# Altium integrated library CAP_WSKJ.IntLib: 66 symbols
Pins are listed as number, name and electrical type; pins without a type are passive.

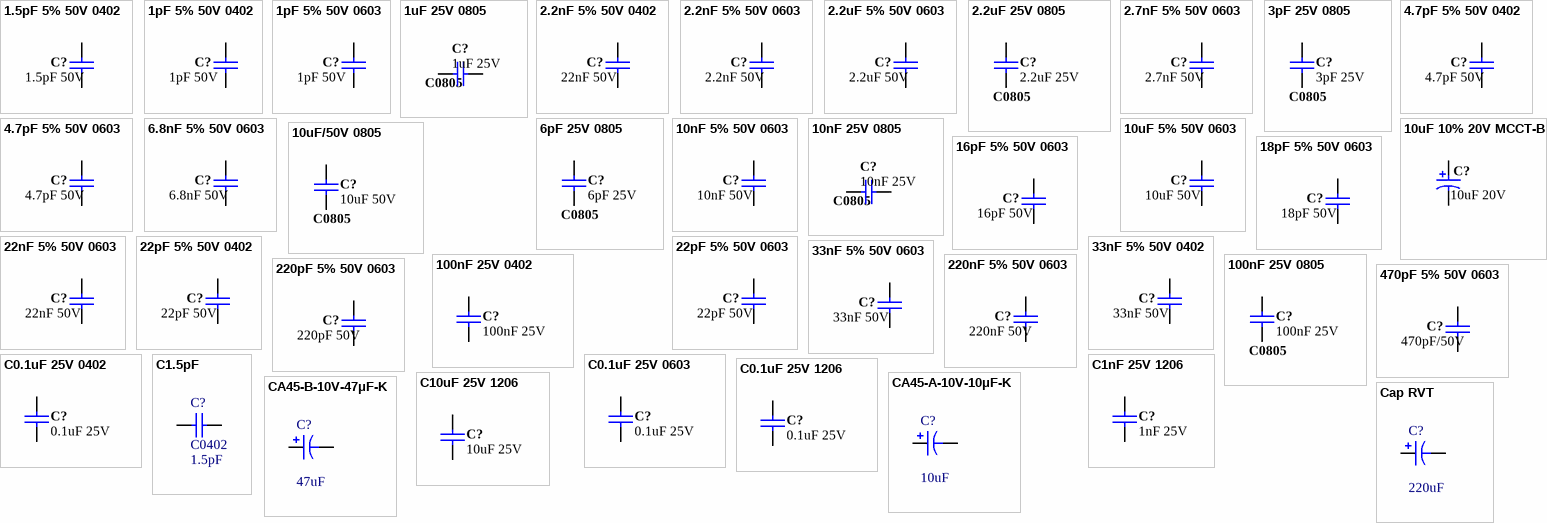
[diagram p0: symbols 1.5pF 5% 50V 0402 to Cap RVT]

## 1.5pF 5% 50V 0402
designator C?, comment 1.5pF 50V
Capacitor, Ceramic, 1.5pF 5% 50V 0402 (1005) COG; Polarity: Non-Polarized; Capacitance: 1.5pF; Category: Capacitor; Dielectric: COG; Mounting Technology: Surface Mount; Rated Voltage: 50 V; Status: Unreleased; Technology: Ceramic; Tolerance: 5 %
footprint CAPC1005-STAR
pins: 1, 2

## 1pF 5% 50V 0402
designator C?, comment 1pF 50V
Capacitor, Ceramic, 1pF ±5% 50V 0402 (1005) COG; Polarity: Non-Polarized; Capacitance: 1pF; Category: Capacitor; Dielectric: COG; Mounting Technology: Surface Mount; Rated Voltage: 50 V; Status: Unreleased; Technology: Ceramic; Tolerance: ±5%
footprint CAPC1005-STAR
pins: 1, 2

## 1pF 5% 50V 0603
designator C?, comment 1pF 50V
Capacitor, Ceramic, 1pF 5% 50V 0603 (1608) COG; Polarity: Non-Polarized; Capacitance: 1pF; Category: Capacitor; Dielectric: COG; Mounting Technology: Surface Mount; Rated Voltage: 50 V; Status: Unreleased; Technology: Ceramic; Tolerance: 5 %
footprint CC1608-0603
pins: 1, 2

## 1uF 25V 0805
designator C?, comment 1uF 25V  package: C0805
Capacitor, Ceramic, 1uF 25V 0805 (2012); Dielectric: X7R; Polarity: Non-Polarized; Tolerance: 10 %; Capacitance: 1uF; Category: Capacitor; Mounting Technology: Surface Mount; Rated Voltage: 25 V; Status: Deprecated; Technology: Ceramic
footprint CAPC2012-STAR
pins: 1, 2

## 2.2nF 5% 50V 0402
designator C?, comment 22nF 50V
Capacitor, Ceramic, 2.2nF 5% 50V 0402 (1005) COG; Polarity: Non-Polarized; Capacitance: 2.2nF; Category: Capacitor; Dielectric: COG; Mounting Technology: Surface Mount; Rated Voltage: 50 V; Status: Unreleased; Technology: Ceramic; Tolerance: 5 %
footprint CAPC1005-STAR
pins: 1, 2

## 2.2nF 5% 50V 0603
designator C?, comment 2.2nF 50V
Capacitor, Ceramic, 2.2nF ±5% 50V 0603 (1608) COG; Polarity: Non-Polarized; Capacitance: 2.2nF; Category: Capacitor; Dielectric: COG; Mounting Technology: Surface Mount; Rated Voltage: 50 V; Status: Unreleased; Technology: Ceramic; Tolerance: 5 %
footprint CC1608-0603
pins: 1, 2

## 2.2uF 5% 50V 0603
designator C?, comment 2.2uF 50V
Capacitor, Ceramic, 2.2uF 5% 50V 0603 (1608) COG; Polarity: Non-Polarized; Capacitance: 2.2uF; Category: Capacitor; Dielectric: COG; Mounting Technology: Surface Mount; Rated Voltage: 50 V; Status: Unreleased; Technology: Ceramic; Tolerance: 5 %
footprint CC1608-0603
pins: 1, 2

## 2.2uF 25V 0805
designator C?, comment 2.2uF 25V  package: C0805
Capacitor, Ceramic, 2.2uF 25V 0805 (2012); Dielectric: X7R; Polarity: Non-Polarized; Tolerance: 10 %; Capacitance: 2.2uF; Category: Capacitor; Mounting Technology: Surface Mount; Rated Voltage: 25 V; Status: Deprecated; Technology: Ceramic
footprint CAPC2012-STAR
pins: 1, 2

## 2.7nF 5% 50V 0603
designator C?, comment 2.7nF 50V
Capacitor, Ceramic, 2.7nF ±5% 50V 0603 (1608) COG; Polarity: Non-Polarized; Capacitance: 2.7nF; Category: Capacitor; Dielectric: COG; Mounting Technology: Surface Mount; Rated Voltage: 50 V; Status: Unreleased; Technology: Ceramic; Tolerance: 5 %
footprint CC1608-0603
pins: 1, 2

## 3pF 25V 0805
designator C?, comment 3pF 25V  package: C0805
Capacitor, Ceramic, 3pF 25V 0805 (2012); Dielectric: X7R; Polarity: Non-Polarized; Tolerance: 10 %; Capacitance: 3pF; Category: Capacitor; Mounting Technology: Surface Mount; Rated Voltage: 25 V; Status: Deprecated; Technology: Ceramic
footprint CAPC2012-STAR
pins: 1, 2

## 4.7pF 5% 50V 0402
designator C?, comment 4.7pF 50V
Capacitor, Ceramic, 4.7pF 5% 50V 0402 (1005) COG; Polarity: Non-Polarized; Capacitance: 4.7pF; Category: Capacitor; Dielectric: COG; Mounting Technology: Surface Mount; Rated Voltage: 50 V; Status: Unreleased; Technology: Ceramic; Tolerance: 5 %
footprint CAPC1005-STAR
pins: 1, 2

## 4.7pF 5% 50V 0603
designator C?, comment 4.7pF 50V
Capacitor, Ceramic, 4.7pF 5% 50V 0603 (1608) COG; Polarity: Non-Polarized; Capacitance: 4.7pF; Category: Capacitor; Dielectric: COG; Mounting Technology: Surface Mount; Rated Voltage: 50 V; Status: Unreleased; Technology: Ceramic; Tolerance: 5 %
footprint CC1608-0603
pins: 1, 2

## 6.8nF 5% 50V 0603
designator C?, comment 6.8nF 50V
Capacitor, Ceramic, 6.8nF 5% 50V 0603 (1608) COG; Polarity: Non-Polarized; Capacitance: 6.8nF; Category: Capacitor; Dielectric: COG; Mounting Technology: Surface Mount; Rated Voltage: 50 V; Status: Unreleased; Technology: Ceramic; Tolerance: 5 %
footprint CC1608-0603
pins: 1, 2

## 6pF 25V 0805
designator C?, comment 6pF 25V  package: C0805
Capacitor, Ceramic, 6pF 25V 0805 (2012); Dielectric: X7R; Polarity: Non-Polarized; Tolerance: 10 %; Capacitance: 6pF; Category: Capacitor; Mounting Technology: Surface Mount; Rated Voltage: 25 V; Status: Deprecated; Technology: Ceramic
footprint CAPC2012-STAR
pins: 1, 2

## 10nF 5% 50V 0603
designator C?, comment 10nF 50V
Capacitor, Ceramic, 10nF 5% 50V 0603 (1608) COG; Polarity: Non-Polarized; Capacitance: 10nF; Category: Capacitor; Dielectric: COG; Mounting Technology: Surface Mount; Rated Voltage: 50 V; Status: Unreleased; Technology: Ceramic; Tolerance: 5 %
footprint CC1608-0603
pins: 1, 2

## 10nF 25V 0805
designator C?, comment 10nF 25V  package: C0805
Capacitor, Ceramic, 10nF 25V 0805 (2012); Capacitance: 1uF; Dielectric: X7R; Polarity: Non-Polarized; Tolerance: 10 %; Category: Capacitor; Mounting Technology: Surface Mount; Rated Voltage: 25 V; Status: Deprecated; Technology: Ceramic
footprint CAPC2012-STAR
pins: 1, 2

## 10uF 5% 50V 0603
designator C?, comment 10uF 50V
Capacitor, Ceramic, 10uF 5% 50V 0603 (1608) COG; Polarity: Non-Polarized; Capacitance: 10uF; Category: Capacitor; Dielectric: COG; Mounting Technology: Surface Mount; Rated Voltage: 50 V; Status: Unreleased; Technology: Ceramic; Tolerance: 5 %
footprint CC1608-0603
pins: 1, 2

## 10uF 10% 20V MCCT-B
designator C?, comment 10uF 20V
Capacitor, Tantalum, 10uF 10% 20V MCCT-B (3528); Polarity: Polarized; Capacitance: 10 uF; Category: Capacitor; Mounting Technology: Surface Mount; Rated Voltage: 20 V; Status: Production; Technology: Tantalum; Tolerance: 10 %
footprint CAPC3528-STAR
pins: 1, 2

## 10uF/50V 0805
designator C?, comment 10uF 50V  package: C0805
Capacitor, Ceramic, 10uF 50V 0805 (2012); Dielectric: X7R; Polarity: Non-Polarized; Tolerance: 10 %; Capacitance: 10uF; Category: Capacitor; Mounting Technology: Surface Mount; Rated Voltage: 50 V; Status: Deprecated; Technology: Ceramic
footprint CAPC2012-STAR
pins: 1, 2

## 16pF 5% 50V 0603
designator C?, comment 16pF 50V
Capacitor, Ceramic, 16pF ±5% 50V 0603 (1608) COG; Polarity: Non-Polarized; Capacitance: 16pF; Category: Capacitor; Dielectric: COG; Mounting Technology: Surface Mount; Rated Voltage: 50 V; Status: Unreleased; Technology: Ceramic; Tolerance: 5 %
footprint CC1608-0603
pins: 1, 2

## 18pF 5% 50V 0603
designator C?, comment 18pF 50V
Capacitor, Ceramic, 18pF ±5% 50V 0603 (1608) COG; Polarity: Non-Polarized; Capacitance: 18pF; Category: Capacitor; Dielectric: COG; Mounting Technology: Surface Mount; Rated Voltage: 50 V; Status: Unreleased; Technology: Ceramic; Tolerance: 5 %
footprint CC1608-0603
pins: 1, 2

## 22nF 5% 50V 0603
designator C?, comment 22nF 50V
Capacitor, Ceramic, 22nF 5% 50V 0603 (1608) COG; Capacitance: 10nF; Polarity: Non-Polarized; Category: Capacitor; Dielectric: COG; Mounting Technology: Surface Mount; Rated Voltage: 50 V; Status: Unreleased; Technology: Ceramic; Tolerance: 5 %
footprint CC1608-0603
pins: 1, 2

## 22pF 5% 50V 0402
designator C?, comment 22pF 50V
Capacitor, Ceramic, 22pF ±5% 50V 0402 (1005) COG; Polarity: Non-Polarized; Capacitance: 22pF; Category: Capacitor; Dielectric: COG; Mounting Technology: Surface Mount; Rated Voltage: 50 V; Status: Unreleased; Technology: Ceramic; Tolerance: 5 %
footprint CAPC1005-STAR
pins: 1, 2

## 22pF 5% 50V 0603
designator C?, comment 22pF 50V
Capacitor, Ceramic, 22pF 5% 50V 0603 (1608) COG; Polarity: Non-Polarized; Capacitance: 22pF; Category: Capacitor; Dielectric: COG; Mounting Technology: Surface Mount; Rated Voltage: 50 V; Status: Unreleased; Technology: Ceramic; Tolerance: 5 %
footprint CC1608-0603
pins: 1, 2

## 33nF 5% 50V 0402
designator C?, comment 33nF 50V
Capacitor, Ceramic, 33nF 5% 50V 0402 (1005) COG; Polarity: Non-Polarized; Capacitance: 33nF; Category: Capacitor; Dielectric: COG; Mounting Technology: Surface Mount; Rated Voltage: 50 V; Status: Unreleased; Technology: Ceramic; Tolerance: 5 %
footprint CAPC1005-STAR
pins: 1, 2

## 33nF 5% 50V 0603
designator C?, comment 33nF 50V
Capacitor, Ceramic, 33nF 5% 50V 0603 (1608) COG; Polarity: Non-Polarized; Capacitance: 33nF; Category: Capacitor; Dielectric: COG; Mounting Technology: Surface Mount; Rated Voltage: 50 V; Status: Unreleased; Technology: Ceramic; Tolerance: 5 %
footprint CC1608-0603
pins: 1, 2

## 100nF 25V 0402
designator C?, comment 100nF 25V
Capacitor, Ceramic, 0.1uF 25V 0402 (1005); Dielectric: X7R; Polarity: Non-Polarized; Tolerance: 10 %; Capacitance: 0.1 uF; Category: Capacitor; Mounting Technology: Surface Mount; Rated Voltage: 25 V; Status: Deprecated; Technology: Ceramic
footprint CAP_0402
pins: 1, 2

## 100nF 25V 0805
designator C?, comment 100nF 25V  package: C0805
Capacitor, Ceramic, 100nF 25V 0805 (2012); Capacitance: 0.1 uF; Dielectric: X7R; Polarity: Non-Polarized; Tolerance: 10 %; Category: Capacitor; Mounting Technology: Surface Mount; Rated Voltage: 25 V; Status: Deprecated; Technology: Ceramic
footprint CAPC2012-STAR
pins: 1, 2

## 220nF 5% 50V 0603
designator C?, comment 220nF 50V
Capacitor, Ceramic, 220nF 5% 50V 0603 (1608) COG; Polarity: Non-Polarized; Capacitance: 220nF; Category: Capacitor; Dielectric: COG; Mounting Technology: Surface Mount; Rated Voltage: 50 V; Status: Unreleased; Technology: Ceramic; Tolerance: 5 %
footprint CC1608-0603
pins: 1, 2

## 220pF 5% 50V 0603
designator C?, comment 220pF 50V
Capacitor, Ceramic, 220pF 5% 50V 0603 (1608) COG; Polarity: Non-Polarized; Capacitance: 220pF; Category: Capacitor; Dielectric: COG; Mounting Technology: Surface Mount; Rated Voltage: 50 V; Status: Unreleased; Technology: Ceramic; Tolerance: 5 %
footprint CC1608-0603
pins: 1, 2

## 470pF 5% 50V 0603
designator C?, comment 470pF/50V
Capacitor, Ceramic, 470pF 5% 50V 0603 (1608) COG; Polarity: Non-Polarized; Capacitance: 470pF; Category: Capacitor; Dielectric: COG; Mounting Technology: Surface Mount; Rated Voltage: 50 V; Status: Unreleased; Technology: Ceramic; Tolerance: 5 %
footprint CC1608-0603
pins: 1, 2

## C0.1uF 25V 0402
designator C?, comment 0.1uF 25V
Capacitor, Ceramic, 0.1uF 25V 0402 (1005); Dielectric: X7R; Polarity: Non-Polarized; Tolerance: 10 %; Capacitance: 0.1 uF; Category: Capacitor; Mounting Technology: Surface Mount; Rated Voltage: 25 V; Status: Deprecated; Technology: Ceramic
footprint CAPC1005-STAR
pins: 1, 2

## C0.1uF 25V 0603
designator C?, comment 0.1uF 25V
Capacitor, Ceramic, 0.1uF 25V 0603 (1608); Dielectric: X7R; Polarity: Non-Polarized; Tolerance: 10 %; Capacitance: 0.1 uF; Category: Capacitor; Mounting Technology: Surface Mount; Rated Voltage: 25 V; Status: Deprecated; Technology: Ceramic
footprint CC1608-0603
pins: 1, 2

## C0.1uF 25V 1206
designator C?, comment 0.1uF 25V
Capacitor, Ceramic, 0.1uF 25V 1206 (3216); Dielectric: X7R; Polarity: Non-Polarized; Tolerance: 10 %; Capacitance: 0.1 uF; Category: Capacitor; Mounting Technology: Surface Mount; Rated Voltage: 25 V; Status: Deprecated; Technology: Ceramic
footprint CC3216-1206
pins: 1, 2

## C1.5pF
designator C?, comment PackageReference: C0402  (hidden comment: 1.5pF)
Capacitor (Semiconductor SIM Model); Published: 8-Jun-2000; LatestRevisionDate: 29-May-2009; LatestRevisionNote: IPC-7351 Footprint Added.; Publisher: Altium Limited; PackageDescription: Chip Capacitor; Value: 1.5pF
footprint C1206 (Chip Capacitor, Body 3.2x1.6mm, IPC High Density)
footprint 0402 (Chip Capacitor, Body 1.0x0.5mm, IPC High Density)
footprint C2512 (Chip Capacitor, Body 2.54x1.27mm, IPC High Density)
footprint 1608[0603] (Chip Capacitor, Body 1.6x0.8mm, IPC High Density)
footprint C1210 (Chip Capacitor, Body 3.2x2.5mm, IPC High Density)
simulation model CAP (Semiconductor Capacitor)
signal-integrity model Cap Semi
pins: 1, 2

## C1nF 25V 1206
designator C?, comment 1nF 25V
Capacitor, Ceramic, 1nF 25V 1206 (3216); Dielectric: X7R; Polarity: Non-Polarized; Tolerance: 10 %; Capacitance: 1nF; Category: Capacitor; Mounting Technology: Surface Mount; Rated Voltage: 25 V; Status: Deprecated; Technology: Ceramic
footprint CC3216-1206
pins: 1, 2

## C10uF 25V 1206
designator C?, comment 10uF 25V
Capacitor, Ceramic, 10uF 25V 1206 (3216); Dielectric: X7R; Polarity: Non-Polarized; Tolerance: 10 %; Capacitance: 10uF; Category: Capacitor; Mounting Technology: Surface Mount; Rated Voltage: 25 V; Status: Deprecated; Technology: Ceramic
footprint CC3216-1206
pins: 1, 2

## CA45-A-10V-10μF-K
designator C?  value 10uF  (hidden comment: CA45-A-10V-10μF-K)
钽电容 振华 TCJ类型 A 47uF; Published: 8-Jun-2000; LatestRevisionDate: 17-Jul-2002; LatestRevisionNote: Re-released for DXP Platform.; PackageReference: POLAR0.8; Publisher: Altium Limited; PackageDescription: Polarized Capacitor; 2 Leads
footprint CC3216-polar
pins: 1, 2
1 alternate drawing of the same symbol

## CA45-B-10V-47μF-K
designator C?  value 47uF  (hidden comment: CA45-B-10V-47μF-K)
钽电容 振华 TCJ类型 B 47uF; Published: 8-Jun-2000; LatestRevisionDate: 17-Jul-2002; LatestRevisionNote: Re-released for DXP Platform.; PackageReference: POLAR0.8; Publisher: Altium Limited; PackageDescription: Polarized Capacitor; 2 Leads
footprint CC3528-POLAR
pins: 1, 2
1 alternate drawing of the same symbol

## Cap RVT
designator C?, comment 220uF
Polarized Capacitor (Axial); Published: 8-Jun-2000; LatestRevisionDate: 17-Jul-2002; LatestRevisionNote: Re-released for DXP Platform.; PackageReference: POLAR0.8; Publisher: Altium Limited; PackageDescription: Polarized Capacitor; 2 Leads; Value: 220uF
simulation model CAP (Capacitor)
signal-integrity model Cap Pol
footprint RVT_63X77
pins: 1, 2
1 alternate drawing of the same symbol

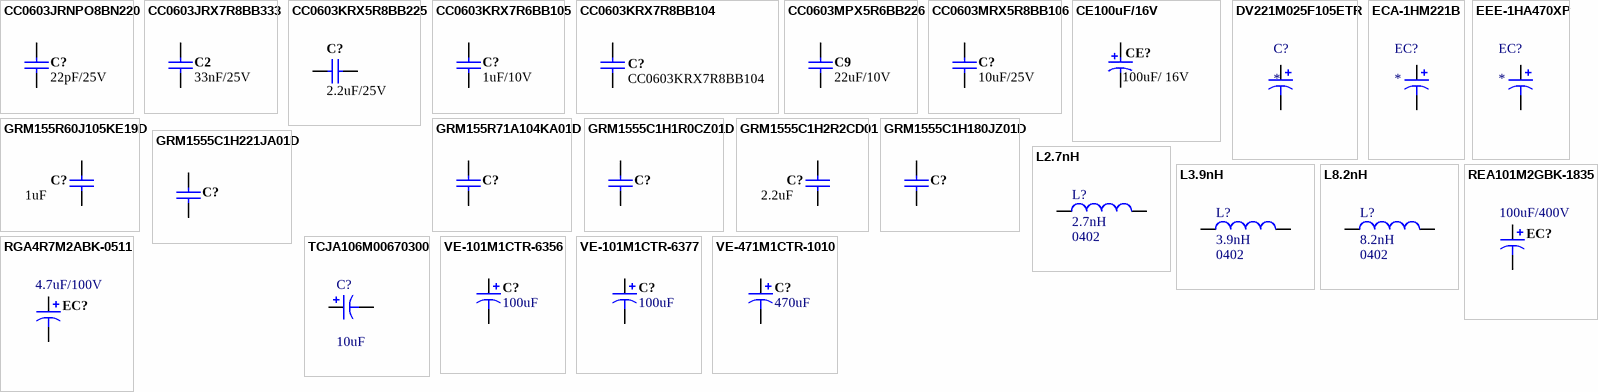
[diagram p1: symbols CC0603JRNPO8BN220 to VE-471M1CTR-1010]

## CC0603JRNPO8BN220
designator C?, comment 22pF/25V
多层陶瓷电容器MLCC - SMD/SMT 22pF 25V NPO 5%; Capacitance: 33nF; Dielectric: X7R; Polarity: Non-Polarized; Tolerance: 10 %; Category: Capacitor; Mounting Technology: Surface Mount; Rated Voltage: 25 V; Status: Deprecated; Technology: Ceramic
footprint CAP_0603 (Chip Capacitor, Body 1.6x0.8mm, 0603, IPC Medium Density)
pins: 1, 2

## CC0603JRX7R8BB333
designator C2, comment 33nF/25V
多层陶瓷电容器MLCC - SMD/SMT 33nF 25V X7R 5%; Polarity: Non-Polarized; Tolerance: 10 %; Capacitance: 33nF; Category: Capacitor; Dielectric: X7R; Mounting Technology: Surface Mount; Rated Voltage: 25 V; Status: Deprecated; Technology: Ceramic
footprint CAP_0603 (Chip Capacitor, Body 1.6x0.8mm, 0603, IPC Medium Density)
pins: 1, 2

## CC0603KRX5R8BB225
designator C?, comment 2.2uF/25V
多层陶瓷电容器MLCC - SMD/SMT 25V 2.2uF X5R 0603 0.1; Capacitance: 0.1 uF; Dielectric: X7R; Polarity: Non-Polarized; Tolerance: 10 %; Category: Capacitor; Mounting Technology: Surface Mount; Rated Voltage: 25 V; Status: Deprecated; Technology: Ceramic
footprint CAP_0603 (Chip Capacitor, Body 1.6x0.8mm, 0603, IPC Medium Density)
pins: 1, 2

## CC0603KRX7R6BB105
designator C?, comment 1uF/10V
多层陶瓷电容器MLCC - SMD/SMT 1.0uF 10V X7R 10%; Capacitance: 0.1 uF; Polarity: Non-Polarized; Rated Voltage: 25 V; Category: Capacitor; Dielectric: X7R; Mounting Technology: Surface Mount; Status: Deprecated; Technology: Ceramic; Tolerance: 10 %
footprint CAP_0603 (Chip Capacitor, Body 1.6x0.8mm, 0603, IPC Medium Density)
pins: 1, 2

## CC0603KRX7R8BB104
designator C?
多层陶瓷电容器MLCC - SMD/SMT 100nF 25V X7R 10%; Polarity: Non-Polarized; Capacitance: 0.1 uF; Category: Capacitor; Dielectric: X7R; Mounting Technology: Surface Mount; Status: Deprecated; Technology: Ceramic; Tolerance: 10 %; Rated Voltage: 25 V
footprint CAP_0603 (Chip Capacitor, Body 1.6x0.8mm, 0603, IPC Medium Density)
pins: 1, 2

## CC0603MPX5R6BB226
designator C9, comment 22uF/10V
多层陶瓷电容器MLCC - SMD/SMT 22uF 20% 10V; Capacitance: 0.1 uF; Dielectric: X7R; Polarity: Non-Polarized; Rated Voltage: 25 V; Tolerance: 10 %; Category: Capacitor; Mounting Technology: Surface Mount; Status: Deprecated; Technology: Ceramic
footprint CAP_0603 (Chip Capacitor, Body 1.6x0.8mm, 0603, IPC Medium Density)
pins: 1, 2

## CC0603MRX5R8BB106
designator C?, comment 10uF/25V
Capacitor, Ceramic, 22uF 25V 0603 (1608); Capacitance: 0.1 uF; Dielectric: X7R; Polarity: Non-Polarized; Tolerance: 10 %; Category: Capacitor; Mounting Technology: Surface Mount; Rated Voltage: 25 V; Status: Deprecated; Technology: Ceramic
footprint CAP_0603 (Chip Capacitor, Body 1.6x0.8mm, 0603, IPC Medium Density)
pins: 1, 2

## CE100uF/16V
designator CE?, comment 100uF/ 16V
Capacitor, Tantalum, 10uF 10% 20V MCCT-B (3528); Polarity: Polarized; Capacitance: 10 uF; Category: Capacitor; Mounting Technology: Surface Mount; Rated Voltage: 20 V; Status: Production; Technology: Tantalum; Tolerance: 10 %
footprint CE5*7
pins: 1, 2

## DV221M025F105ETR
designator C?
贴片电解电容220uF/25V
footprint RVT_8X10.4
pins: 1, 2

## ECA-1HM221B
designator EC?
CAP ALUM 220UF 20% 50V RADIAL; 制造商: Panasonic Electronic Components
footprint EC10 x 12.5 x 5 x 0.6 (M Series_10 x 12.5 x 5 x 0.6)
pins: 1, 2

## EEE-1HA470XP
designator EC?
CAP ALUM 47UF 20% 50V SMD; 制造商: Panasonic Electronic Components
footprint RVT_63X77
pins: 1, 2

## GRM155R60J105KE19D
designator C?, comment 1uF
Capacitor 1uF, 0402, X5R,10%, 6.3V; Capacitance: 1.5pF; Dielectric: COG; Polarity: Non-Polarized; Rated Voltage: 50 V; Tolerance: 5 %; Category: Capacitor; Mounting Technology: Surface Mount; Status: Unreleased; Technology: Ceramic
footprint CAPC1005-STAR
pins: 1, 2

## GRM155R71A104KA01D
designator C?
Capacitor, 100n, 0402, X5R, 10%, 10V; Capacitance: 18pF; Dielectric: COG; Polarity: Non-Polarized; Rated Voltage: 50 V; Tolerance: 5 %; Category: Capacitor; Mounting Technology: Surface Mount; Status: Unreleased; Technology: Ceramic
footprint 0402 (0402 from SM-752 data)
pins: 1, 2

## GRM1555C1H1R0CZ01D
designator C?
Capacitor, 1p, 0402, NP0, +/-0.25pF 50V; Capacitance: 18pF; Dielectric: COG; Polarity: Non-Polarized; Tolerance: 5 %; Category: Capacitor; Mounting Technology: Surface Mount; Rated Voltage: 50 V; Status: Unreleased; Technology: Ceramic
footprint 0402 (0402 from SM-752 data)
pins: 1, 2

## GRM1555C1H2R2CD01
designator C?, comment 2.2uF
Capacitor, 2u2, 0402, X5R, +/-20%, 4V; Capacitance: 1.5pF; Dielectric: COG; Polarity: Non-Polarized; Rated Voltage: 50 V; Tolerance: 5 %; Category: Capacitor; Mounting Technology: Surface Mount; Status: Unreleased; Technology: Ceramic
footprint CAPC1005-STAR
pins: 1, 2

## GRM1555C1H180JZ01D
designator C?
C_18P_0402_NP0_J_50; Capacitance: 18pF; Dielectric: COG; Polarity: Non-Polarized; Rated Voltage: 50 V; Tolerance: 5 %; Category: Capacitor; Mounting Technology: Surface Mount; Status: Unreleased; Technology: Ceramic
footprint 0402 (0402 from SM-752 data)
pins: 1, 2

## GRM1555C1H221JA01D
designator C?
Capacitor, 220p, 0402, NP0, 5%, 50V; Capacitance: 18pF; Dielectric: COG; Polarity: Non-Polarized; Category: Capacitor; Mounting Technology: Surface Mount; Rated Voltage: 50 V; Status: Unreleased; Technology: Ceramic; Tolerance: 5 %
footprint 0402 (0402 from SM-752 data)
pins: 1, 2

## L2.7nH
designator L?, comment Code_JEITA: 0402  (hidden comment: 2.7nH)
Inductor; Code_IEC: 1005; Published: 8-Jun-2000; LatestRevisionDate: 29-May-2009; LatestRevisionNote: IPC-7351 Footprint Added.; PackageReference: 0402-A; Publisher: Altium Limited; PackageDescription: Chip Inductor; Value: 2.7nH
footprint 0402-A (Chip Inductor, Body 1.0x0.5mm, IPC High Density)
footprint INDC1608L (Chip Inductor, Body 1.6x0.8mm, IPC High Density)
footprint 2029 (Chip Inductor, Body 2.0x1.2mm, IPC High Density)
footprint 0603 (Chip Inductor, Body 0.6x0.3mm, IPC High Density)
footprint INDC3216 (Chip Inductor, Body 3.2x1.6mm, IPC High Density)
footprint INDC4532 (Chip Inductor, Body 4.5x3.2mm, IPC High Density)
simulation model INDUCTOR (Inductor)
signal-integrity model Inductor
pins: 1, 2

## L3.9nH
designator L?, comment Code_JEITA: 0402  (hidden comment: 3.9nH)
Inductor; Code_IEC: 1005; Published: 8-Jun-2000; LatestRevisionDate: 29-May-2009; LatestRevisionNote: IPC-7351 Footprint Added.; PackageReference: 0402-A; Publisher: Altium Limited; PackageDescription: Chip Inductor; Value: 3.9nH
footprint 0402-A (Chip Inductor, Body 1.0x0.5mm, IPC High Density)
footprint INDC1608L (Chip Inductor, Body 1.6x0.8mm, IPC High Density)
footprint 2029 (Chip Inductor, Body 2.0x1.2mm, IPC High Density)
footprint 0603 (Chip Inductor, Body 0.6x0.3mm, IPC High Density)
footprint INDC3216 (Chip Inductor, Body 3.2x1.6mm, IPC High Density)
footprint INDC4532 (Chip Inductor, Body 4.5x3.2mm, IPC High Density)
simulation model INDUCTOR (Inductor)
signal-integrity model Inductor
pins: 1, 2

## L8.2nH
designator L?, comment Code_JEITA: 0402  (hidden comment: 8.2nH)
Inductor; Code_IEC: 1005; Published: 8-Jun-2000; LatestRevisionDate: 29-May-2009; LatestRevisionNote: IPC-7351 Footprint Added.; PackageReference: 0402-A; Publisher: Altium Limited; PackageDescription: Chip Inductor; Value: 8.2nH
footprint 0402-A (Chip Inductor, Body 1.0x0.5mm, IPC High Density)
footprint INDC1608L (Chip Inductor, Body 1.6x0.8mm, IPC High Density)
footprint 2029 (Chip Inductor, Body 2.0x1.2mm, IPC High Density)
footprint 0603 (Chip Inductor, Body 0.6x0.3mm, IPC High Density)
footprint INDC3216 (Chip Inductor, Body 3.2x1.6mm, IPC High Density)
footprint INDC4532 (Chip Inductor, Body 4.5x3.2mm, IPC High Density)
simulation model INDUCTOR (Inductor)
signal-integrity model Inductor
pins: 1, 2

## REA101M2GBK-1835
designator EC?, comment 100uF/400V
铝电解电容100uF 20% 400V 18φ×35.5; Value: 100uF; LatestRevisionDate: 17-Jul-2002; LatestRevisionNote: Re-released for DXP Platform.; PackageReference: POLAR0.8
simulation model CAP (Capacitor)
signal-integrity model Cap Pol
footprint EC_1835_A
pins: 1, 2
1 alternate drawing of the same symbol

## RGA4R7M2ABK-0511
designator EC?, comment 4.7uF/100V
电解电容插件 ，封装Radial,5x11mm; Value: 100uF; LatestRevisionDate: 17-Jul-2002; LatestRevisionNote: Re-released for DXP Platform.; PackageReference: POLAR0.8
simulation model CAP (Capacitor)
signal-integrity model Cap Pol
footprint RADIAL 5 x 11
pins: 1, 2
1 alternate drawing of the same symbol

## TCJA106M00670300
designator C?  value 10uF  (hidden comment: TCJA106M00670300)
钽电容 AVX TCJ类型 A 10uF; Published: 8-Jun-2000; LatestRevisionDate: 17-Jul-2002; LatestRevisionNote: Re-released for DXP Platform.; PackageReference: POLAR0.8; Publisher: Altium Limited; PackageDescription: Polarized Capacitor; 2 Leads
footprint CC3216-polar
pins: 1, 2
1 alternate drawing of the same symbol

## VE-101M1CTR-6356
designator C?, comment 100uF
贴片铝电解电容100uF 20% 16V 6.3φ×5.6; LatestRevisionDate: 17-Jul-2002; LatestRevisionNote: Re-released for DXP Platform.; PackageReference: POLAR0.8; Value: 100uF
simulation model CAP (Capacitor)
signal-integrity model Cap Pol
footprint RVT_63X56
pins: 1, 2
1 alternate drawing of the same symbol

## VE-101M1CTR-6377
designator C?, comment 100uF
贴片铝电解电容100uF 20% 16V 6.3φ×7.7; LatestRevisionDate: 17-Jul-2002; LatestRevisionNote: Re-released for DXP Platform.; PackageReference: POLAR0.8; Value: 100uF
simulation model CAP (Capacitor)
signal-integrity model Cap Pol
footprint RVT_63X77
pins: 1, 2
1 alternate drawing of the same symbol

## VE-471M1CTR-1010
designator C?, comment 470uF
贴片铝电解电容470uF 20% 25V 10φ×10; LatestRevisionDate: 17-Jul-2002; LatestRevisionNote: Re-released for DXP Platform.; PackageReference: POLAR0.8; Value: 470uF
simulation model CAP (Capacitor)
signal-integrity model Cap Pol
footprint RVT_10X10.5
pins: 1, 2
1 alternate drawing of the same symbol